# Altium schematic symbol library PINHEADER2x3.SchLib: 1 symbol
Pins are listed as number, name and electrical type; pins without a type are passive.

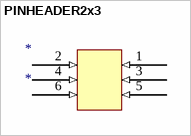
[diagram p0: symbol PINHEADER2x3]

## PINHEADER2x3
designator *
footprint PINHEADER2x3
pins: 1 (in), 2 (in), 3 (in), 4 (in), 5 (in), 6 (in)